# Altium schematic symbol library Inrush_Current_Limiter_Sch.SchLib: 1 symbol
Pins are listed as number, name and electrical type; pins without a type are passive.

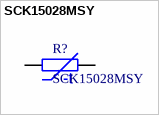
[diagram p0: symbol SCK15028MSY]

## SCK15028MSY
designator R?
INRUSH CURRENT LIMITERS 15MM 2R %20 8A; Pitch: 7.5mm; Current: 8A; Resistance@25C: 2R; Diameter: 15mm; ComponentLink1Description: Link; ComponentLink1URL: https://ozdisan.com/devre-koruyucular/devre-akim-ve-gerilim-koruyucular/demeraj-akim-sinirlayicilar/SCK15028MSY/627798; Tolerance: %20
footprint D15-P7.5
pins: 1, 2
text: -t